# Altium schematic symbol library patchAntennaArray.SchLib: 3 symbols
Pins are listed as number, name and electrical type; pins without a type are passive.

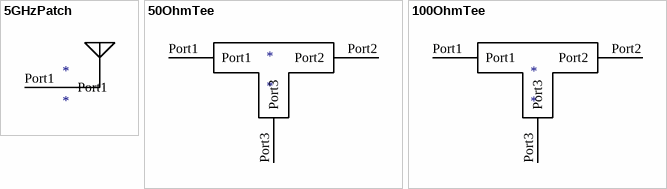
[diagram p0: symbols 5GHzPatch to 100OhmTee]

## 5GHzPatch
designator *
footprint 5GHzPatch
pins: Port1

## 50OhmTee
designator *
footprint 50OhmTee
pins: Port1, Port2, Port3

## 100OhmTee
designator *
footprint 100OhmTee
pins: Port1, Port2, Port3